# Altium schematic symbol library PAM8302AASCR.SchLib: 1 symbol
Pins are listed as number, name and electrical type; pins without a type are passive.

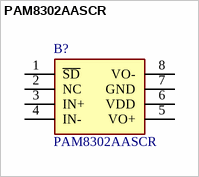
[diagram p0: symbol PAM8302AASCR]

## PAM8302AASCR
designator B?
Amplifier IC 1-Channel (Mono) Class D 8-MSOP; Manufacturer_Name: Diodes Incorporated; Geometry.Height: 1.1mm; Mouser Part Number: 621-PAM8302AASCR; Mouser Price/Stock: https://www.mouser.co.uk/ProductDetail/Diodes-Incorporated/PAM8302AASCR?qs=pYVYkI7xuRXTVZEQSGcDyg%3D%3D; Manufacturer_Part_Number: PAM8302AASCR; Datasheet Link: https://www.diodes.com/assets/Datasheets/PAM8302A.pdf
footprint SOP65P490X110-8N
pins: 1 ~{SD}, 2 NC, 3 IN+, 4 IN-, 5 VO+, 6 VDD, 7 GND, 8 VO-